# EAGLE library part 2601-1108 (library 2601-1108)
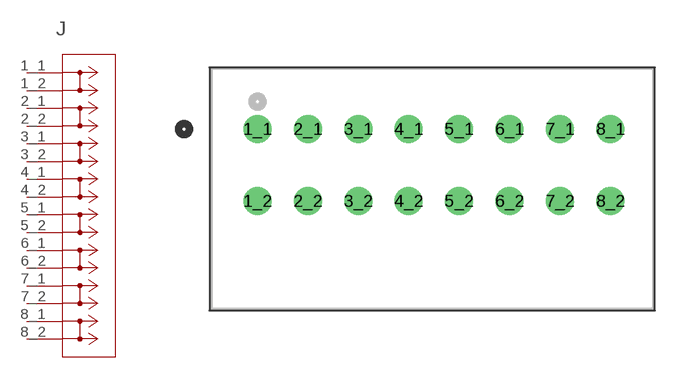
[diagram p0: symbol with the pads of CONN_2601-1108_WAG; footprint CONN_2601-1108_WAG]

Designator prefix J

## 2601-1108CONN_2601-1108_WAG (Copyright: Copyright (C) 2024 Ultra Librarian. All rights reserved.; Manufacturer_Part_Number: 2601-1108; Mfr_Name: Wago)  [CONN_2601-1108_WAG]
1_1  1_1  pas
1_2  1_2  pas
2_1  2_1  pas
2_2  2_2  pas
3_1  3_1  pas
3_2  3_2  pas
4_1  4_1  pas
4_2  4_2  pas
5_1  5_1  pas
5_2  5_2  pas
6_1  6_1  pas
6_2  6_2  pas
7_1  7_1  pas
7_2  7_2  pas
8_1  8_1  pas
8_2  8_2  pas

## Footprint CONN_2601-1108_WAG (pad centres in mm)
drill 1.295 pad 1.803 round: 1_1 0,0; 1_2 0,-5; 2_1 3.5,0; 2_2 3.5,-5; 3_1 7,0; 3_2 7,-5; 4_1 10.5,0; 4_2 10.5,-5; 5_1 14,0; 5_2 14,-5; 6_1 17.5,0; 6_2 17.5,-5; 7_1 21,0; 7_2 21,-5; 8_1 24.5,0; 8_2 24.5,-5